# Altium schematic symbol library Common_Mode_Choke_4Pin.Schlib: 1 symbol
Pins are listed as number, name and electrical type; pins without a type are passive.

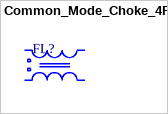
[diagram p0: symbol Common_Mode_Choke_4Pin]

## Common_Mode_Choke_4Pin
designator FL?
Common Mode Choke
pins: 1, 2, 3, 4